# EAGLE library part FAN3989 (library zz-upenn)
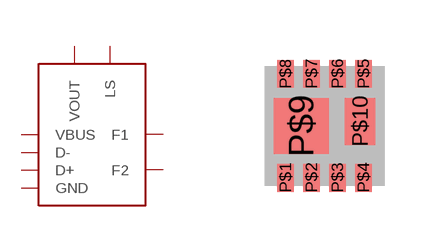
[diagram p9: symbol with the pads of FAN3989; footprint FAN3989]

Designator prefix -

## FAN3989  [FAN3989]
P$1  D+
P$2  GND
P$3  F2
P$4  LS
P$5  VOUT
P$6  VBUS
P$7  F1
P$8  D-

## Footprint FAN3989 (pad centres in mm)
smd 0.42 x 0.7: P$1 -0.975,-1.3; P$2 -0.325,-1.3; P$3 0.325,-1.3; P$4 0.975,-1.3; P$5 0.975,1.3; P$6 0.325,1.3; P$7 -0.325,1.3; P$8 -0.975,1.3
smd 1.37 x 1.4: P$9 -0.58,0
smd 0.76 x 1.18: P$10 0.89,0.11